# EAGLE library part EFM32G890F32 (library EnergyMicro)
EFM32G890F32 Gecko Microcontroller in 10mm x 10mm BGA112 package
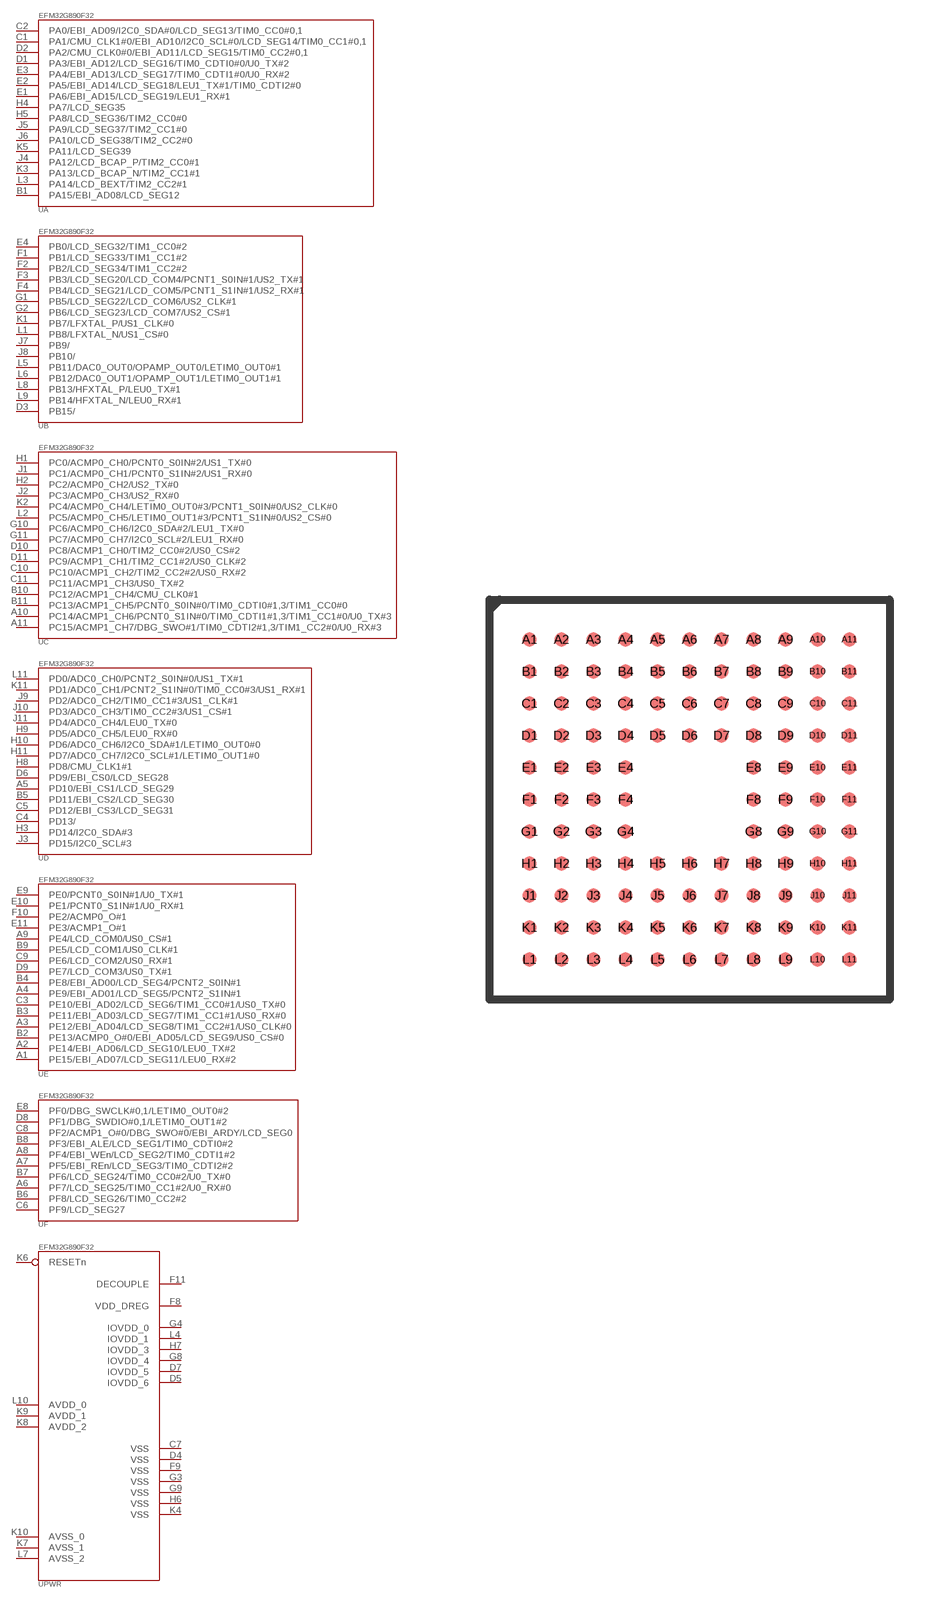
[diagram p29: symbol with the pads of BGA112; footprint BGA112]

Designator prefix -; gates A=EFM32G890F32_A B=EFM32G890F32_B C=EFM32G890F32_C D=EFM32G890F32_D E=EFM32G890F32_E F=EFM32G890F32_F PWR=EFM32G890F32_PWR

## EFM32G890F32  [BGA112]
A1  E:PE15/EBI_AD07/LCD_SEG11/LEU0_RX#2
A2  E:PE14/EBI_AD06/LCD_SEG10/LEU0_TX#2
A3  E:PE12/EBI_AD04/LCD_SEG8/TIM1_CC2#1/US0_CLK#0
A4  E:PE9/EBI_AD01/LCD_SEG5/PCNT2_S1IN#1
A5  D:PD10/EBI_CS1/LCD_SEG29
A6  F:PF7/LCD_SEG25/TIM0_CC1#2/U0_RX#0
A7  F:PF5/EBI_REn/LCD_SEG3/TIM0_CDTI2#2
A8  F:PF4/EBI_WEn/LCD_SEG2/TIM0_CDTI1#2
A9  E:PE4/LCD_COM0/US0_CS#1
A10  C:PC14/ACMP1_CH6/PCNT0_S1IN#0/TIM0_CDTI1#1,3/TIM1_CC1#0/U0_TX#3
A11  C:PC15/ACMP1_CH7/DBG_SWO#1/TIM0_CDTI2#1,3/TIM1_CC2#0/U0_RX#3
B1  A:PA15/EBI_AD08/LCD_SEG12
B2  E:PE13/ACMP0_O#0/EBI_AD05/LCD_SEG9/US0_CS#0
B3  E:PE11/EBI_AD03/LCD_SEG7/TIM1_CC1#1/US0_RX#0
B4  E:PE8/EBI_AD00/LCD_SEG4/PCNT2_S0IN#1
B5  D:PD11/EBI_CS2/LCD_SEG30
B6  F:PF8/LCD_SEG26/TIM0_CC2#2
B7  F:PF6/LCD_SEG24/TIM0_CC0#2/U0_TX#0
B8  F:PF3/EBI_ALE/LCD_SEG1/TIM0_CDTI0#2
B9  E:PE5/LCD_COM1/US0_CLK#1
B10  C:PC12/ACMP1_CH4/CMU_CLK0#1
B11  C:PC13/ACMP1_CH5/PCNT0_S0IN#0/TIM0_CDTI0#1,3/TIM1_CC0#0
C1  A:PA1/CMU_CLK1#0/EBI_AD10/I2C0_SCL#0/LCD_SEG14/TIM0_CC1#0,1
C2  A:PA0/EBI_AD09/I2C0_SDA#0/LCD_SEG13/TIM0_CC0#0,1
C3  E:PE10/EBI_AD02/LCD_SEG6/TIM1_CC0#1/US0_TX#0
C4  D:PD13/
C5  D:PD12/EBI_CS3/LCD_SEG31
C6  F:PF9/LCD_SEG27
C7  PWR:VSS  pwr
C8  F:PF2/ACMP1_O#0/DBG_SWO#0/EBI_ARDY/LCD_SEG0
C9  E:PE6/LCD_COM2/US0_RX#1
C10  C:PC10/ACMP1_CH2/TIM2_CC2#2/US0_RX#2
C11  C:PC11/ACMP1_CH3/US0_TX#2
D1  A:PA3/EBI_AD12/LCD_SEG16/TIM0_CDTI0#0/U0_TX#2
D2  A:PA2/CMU_CLK0#0/EBI_AD11/LCD_SEG15/TIM0_CC2#0,1
D3  B:PB15/
D4  PWR:VSS  pwr
D5  PWR:IOVDD_6  pwr
D6  D:PD9/EBI_CS0/LCD_SEG28
D7  PWR:IOVDD_5  pwr
D8  F:PF1/DBG_SWDIO#0,1/LETIM0_OUT1#2
D9  E:PE7/LCD_COM3/US0_TX#1
D10  C:PC8/ACMP1_CH0/TIM2_CC0#2/US0_CS#2
D11  C:PC9/ACMP1_CH1/TIM2_CC1#2/US0_CLK#2
E1  A:PA6/EBI_AD15/LCD_SEG19/LEU1_RX#1
E2  A:PA5/EBI_AD14/LCD_SEG18/LEU1_TX#1/TIM0_CDTI2#0
E3  A:PA4/EBI_AD13/LCD_SEG17/TIM0_CDTI1#0/U0_RX#2
E4  B:PB0/LCD_SEG32/TIM1_CC0#2
E8  F:PF0/DBG_SWCLK#0,1/LETIM0_OUT0#2
E9  E:PE0/PCNT0_S0IN#1/U0_TX#1
E10  E:PE1/PCNT0_S1IN#1/U0_RX#1
E11  E:PE3/ACMP1_O#1
F1  B:PB1/LCD_SEG33/TIM1_CC1#2
F2  B:PB2/LCD_SEG34/TIM1_CC2#2
F3  B:PB3/LCD_SEG20/LCD_COM4/PCNT1_S0IN#1/US2_TX#1
F4  B:PB4/LCD_SEG21/LCD_COM5/PCNT1_S1IN#1/US2_RX#1
F8  PWR:VDD_DREG  pwr
F9  PWR:VSS  pwr
F10  E:PE2/ACMP0_O#1
F11  PWR:DECOUPLE  pwr
G1  B:PB5/LCD_SEG22/LCD_COM6/US2_CLK#1
G2  B:PB6/LCD_SEG23/LCD_COM7/US2_CS#1
G3  PWR:VSS  pwr
G4  PWR:IOVDD_0  pwr
G8  PWR:IOVDD_4  pwr
G9  PWR:VSS  pwr
G10  C:PC6/ACMP0_CH6/I2C0_SDA#2/LEU1_TX#0
G11  C:PC7/ACMP0_CH7/I2C0_SCL#2/LEU1_RX#0
H1  C:PC0/ACMP0_CH0/PCNT0_S0IN#2/US1_TX#0
H2  C:PC2/ACMP0_CH2/US2_TX#0
H3  D:PD14/I2C0_SDA#3
H4  A:PA7/LCD_SEG35
H5  A:PA8/LCD_SEG36/TIM2_CC0#0
H6  PWR:VSS  pwr
H7  PWR:IOVDD_3  pwr
H8  D:PD8/CMU_CLK1#1
H9  D:PD5/ADC0_CH5/LEU0_RX#0
H10  D:PD6/ADC0_CH6/I2C0_SDA#1/LETIM0_OUT0#0
H11  D:PD7/ADC0_CH7/I2C0_SCL#1/LETIM0_OUT1#0
J1  C:PC1/ACMP0_CH1/PCNT0_S1IN#2/US1_RX#0
J2  C:PC3/ACMP0_CH3/US2_RX#0
J3  D:PD15/I2C0_SCL#3
J4  A:PA12/LCD_BCAP_P/TIM2_CC0#1
J5  A:PA9/LCD_SEG37/TIM2_CC1#0
J6  A:PA10/LCD_SEG38/TIM2_CC2#0
J7  B:PB9/
J8  B:PB10/
J9  D:PD2/ADC0_CH2/TIM0_CC1#3/US1_CLK#1
J10  D:PD3/ADC0_CH3/TIM0_CC2#3/US1_CS#1
J11  D:PD4/ADC0_CH4/LEU0_TX#0
K1  B:PB7/LFXTAL_P/US1_CLK#0
K2  C:PC4/ACMP0_CH4/LETIM0_OUT0#3/PCNT1_S0IN#0/US2_CLK#0
K3  A:PA13/LCD_BCAP_N/TIM2_CC1#1
K4  PWR:VSS  pwr
K5  A:PA11/LCD_SEG39
K6  PWR:RESETn  pas
K7  PWR:AVSS_1  pwr
K8  PWR:AVDD_2  pwr
K9  PWR:AVDD_1  pwr
K10  PWR:AVSS_0  pwr
K11  D:PD1/ADC0_CH1/PCNT2_S1IN#0/TIM0_CC0#3/US1_RX#1
L1  B:PB8/LFXTAL_N/US1_CS#0
L2  C:PC5/ACMP0_CH5/LETIM0_OUT1#3/PCNT1_S1IN#0/US2_CS#0
L3  A:PA14/LCD_BEXT/TIM2_CC2#1
L4  PWR:IOVDD_1  pwr
L5  B:PB11/DAC0_OUT0/OPAMP_OUT0/LETIM0_OUT0#1
L6  B:PB12/DAC0_OUT1/OPAMP_OUT1/LETIM0_OUT1#1
L7  PWR:AVSS_2  pwr
L8  B:PB13/HFXTAL_P/LEU0_TX#1
L9  B:PB14/HFXTAL_N/LEU0_RX#1
L10  PWR:AVDD_0  pwr
L11  D:PD0/ADC0_CH0/PCNT2_S0IN#0/US1_TX#1

## Footprint BGA112 (pad centres in mm)
smd 0.35 x 0.35: A1 -4,4; A2 -3.2,4; A3 -2.4,4; A4 -1.6,4; A5 -0.8,4; A6 0,4; A7 0.8,4; A8 1.6,4; A9 2.4,4; A10 3.2,4; A11 4,4; B1 -4,3.2; B2 -3.2,3.2; B3 -2.4,3.2; B4 -1.6,3.2; B5 -0.8,3.2; B6 0,3.2; B7 0.8,3.2; B8 1.6,3.2; B9 2.4,3.2; B10 3.2,3.2; B11 4,3.2; C1 -4,2.4; C2 -3.2,2.4; C3 -2.4,2.4; C4 -1.6,2.4; C5 -0.8,2.4; C6 0,2.4; C7 0.8,2.4; C8 1.6,2.4; C9 2.4,2.4; C10 3.2,2.4; C11 4,2.4; D1 -4,1.6; D2 -3.2,1.6; D3 -2.4,1.6; D4 -1.6,1.6; D5 -0.8,1.6; D6 0,1.6; D7 0.8,1.6; D8 1.6,1.6; D9 2.4,1.6; D10 3.2,1.6; D11 4,1.6; E1 -4,0.8; E2 -3.2,0.8; E3 -2.4,0.8; E4 -1.6,0.8; E8 1.6,0.8; E9 2.4,0.8; E10 3.2,0.8; E11 4,0.8; F1 -4,0; F2 -3.2,0; F3 -2.4,0; F4 -1.6,0; F8 1.6,0; F9 2.4,0; F10 3.2,0; F11 4,0; G1 -4,-0.8; G2 -3.2,-0.8; G3 -2.4,-0.8; G4 -1.6,-0.8; G8 1.6,-0.8; G9 2.4,-0.8; G10 3.2,-0.8; G11 4,-0.8; H1 -4,-1.6; H2 -3.2,-1.6; H3 -2.4,-1.6; H4 -1.6,-1.6; H5 -0.8,-1.6; H6 0,-1.6; H7 0.8,-1.6; H8 1.6,-1.6; H9 2.4,-1.6; H10 3.2,-1.6; H11 4,-1.6; J1 -4,-2.4; J2 -3.2,-2.4; J3 -2.4,-2.4; J4 -1.6,-2.4; J5 -0.8,-2.4; J6 0,-2.4; J7 0.8,-2.4; J8 1.6,-2.4; J9 2.4,-2.4; J10 3.2,-2.4; J11 4,-2.4; K1 -4,-3.2; K2 -3.2,-3.2; K3 -2.4,-3.2; K4 -1.6,-3.2; K5 -0.8,-3.2; K6 0,-3.2; K7 0.8,-3.2; K8 1.6,-3.2; K9 2.4,-3.2; K10 3.2,-3.2; K11 4,-3.2; L1 -4,-4; L2 -3.2,-4; L3 -2.4,-4; L4 -1.6,-4; L5 -0.8,-4; L6 0,-4; L7 0.8,-4; L8 1.6,-4; L9 2.4,-4; L10 3.2,-4; L11 4,-4